# Altium footprint library ActiveComponents.PcbLib: 18 footprints (part 1 of 2)
Each footprint in its own frame and in the unit in brackets; x right, y up, seen from the top. Pads: shape width x height; smd on the part's side, far side on the other; paste and mask are expansions set on the pad; w line width, h text height; cw(c..) or ccw(c..) is an arc to the next point about the centre after c.
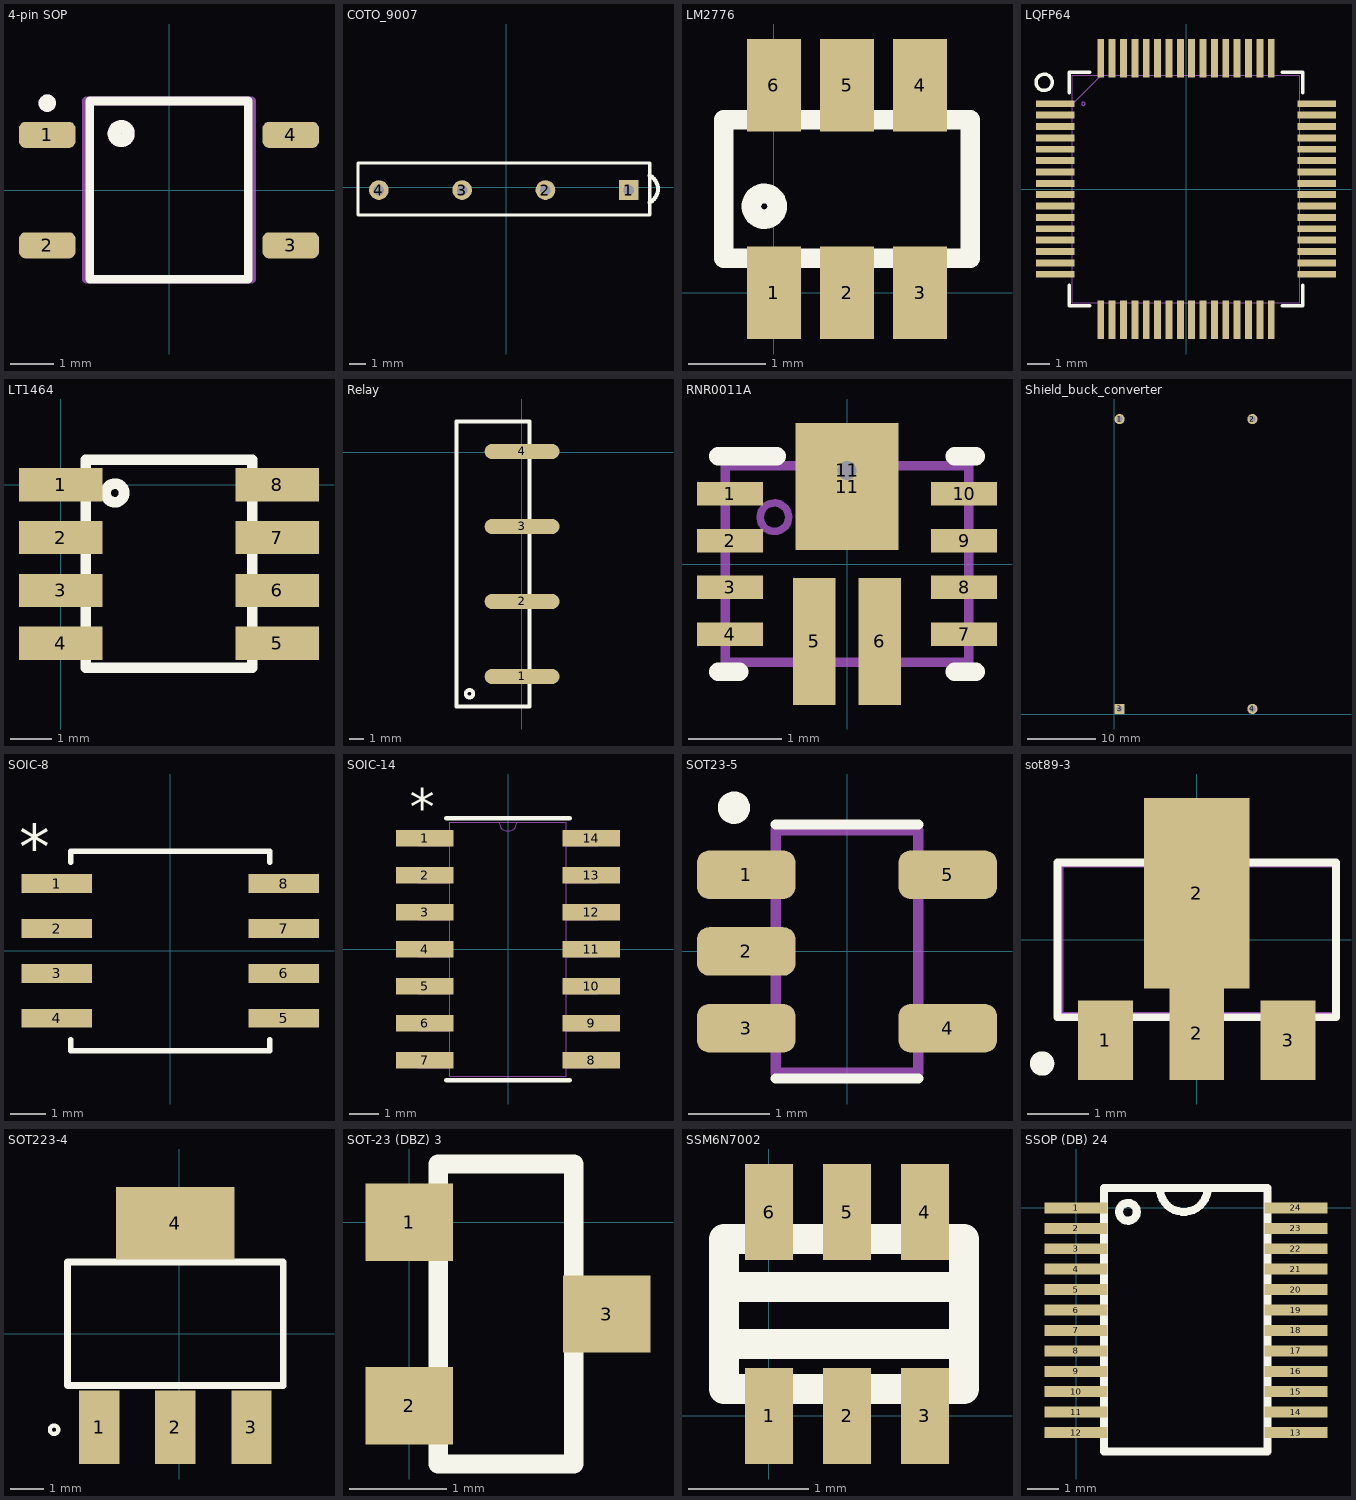
[diagram p0: the footprints below, top view; thin cyan lines are the x and y axes]

## 4-pin SOP [mm]
pads (4):
  rrect50% 1.3x0.6 smd: 1(-2.8,1.27) 2(-2.8,-1.27) 3(2.8,-1.27) 4(2.8,1.27)
Top Overlay:
  circle w0.3: c-1.1,1.3 r0.16
  circle w0.2: c-2.8,2 r0.1
  lines w0.2: -1.825,-2.05 1.825,-2.05 1.825,2.05 -1.825,2.05 -1.825,-2.05
Mechanical 13:
  circle w0.3: c-1.1,1.3 r0.16
  circle w0.2: c-2.8,2 r0.1
  lines w0.2: -1.905,-2.05 1.905,-2.05 1.905,2.05 -1.905,2.05 -1.905,-2.05

## COTO_9007 [mm]
pads (4):
  rect 1.2x1.2 hole 0.64: 1(7.467,-0.177)
  round 1.2 hole 0.64: 2(2.387,-0.177) 3(-2.693,-0.177) 4(-7.773,-0.177)
Top Overlay:
  lines w0.2: -9.043,-1.701 8.737,-1.701 8.737,1.474 -9.043,1.474 -9.043,-1.701
  lines w0.254: 8.737,-0.939 ccw(c8.324,-0.113) 8.737,0.712

## LM2776 [mm] "+5 to -5V converter"
pads (6):
  rect 0.7x1.2 smd: 1(0,0) 2(0.95,0) 3(1.9,0) 4(1.9,2.7) 5(0.95,2.7) 6(0,2.7)
Top Overlay:
  circle w0.254: c-0.125,1.125 r0.168
  lines w0.254: -0.65,0.45 2.55,0.45 2.55,2.25 -0.65,2.25 -0.65,1.35 -0.65,0.45

## LQFP64 [mm]
pads (64):
  rect 1.7x0.305 smd paste+0 mask+0: 1(-5.75,3.75) 2(-5.75,3.25) 3(-5.75,2.75) 4(-5.75,2.25) 5(-5.75,1.75) 6(-5.75,1.25) 7(-5.75,0.75) 8(-5.75,0.25) 9(-5.75,-0.25) 10(-5.75,-0.75) 11(-5.75,-1.25) 12(-5.75,-1.75) 13(-5.75,-2.25) 14(-5.75,-2.75) 15(-5.75,-3.25) 16(-5.75,-3.75) 33(5.75,-3.75) 34(5.75,-3.25) 35(5.75,-2.75) 36(5.75,-2.25) 37(5.75,-1.75) 38(5.75,-1.25) 39(5.75,-0.75) 40(5.75,-0.25) 41(5.75,0.25) 42(5.75,0.75) 43(5.75,1.25) 44(5.75,1.75) 45(5.75,2.25) 46(5.75,2.75) 47(5.75,3.25) 48(5.75,3.75)
  rect 0.305x1.7 smd paste+0 mask+0: 17(-3.75,-5.75) 18(-3.25,-5.75) 19(-2.75,-5.75) 20(-2.25,-5.75) 21(-1.75,-5.75) 22(-1.25,-5.75) 23(-0.75,-5.75) 24(-0.25,-5.75) 25(0.25,-5.75) 26(0.75,-5.75) 27(1.25,-5.75) 28(1.75,-5.75) 29(2.25,-5.75) 30(2.75,-5.75) 31(3.25,-5.75) 32(3.75,-5.75) 49(3.75,5.75) 50(3.25,5.75) 51(2.75,5.75) 52(2.25,5.75) 53(1.75,5.75) 54(1.25,5.75) 55(0.75,5.75) 56(0.25,5.75) 57(-0.25,5.75) 58(-0.75,5.75) 59(-1.25,5.75) 60(-1.75,5.75) 61(-2.25,5.75) 62(-2.75,5.75) 63(-3.25,5.75) 64(-3.75,5.75)
Top Overlay:
  lines w0.152: -5.9,4.8 ccw(c-6.24,4.692) -5.89,4.761 ; -5.131,-4.234 -5.131,-5.131 -4.234,-5.131 ; -5.131,4.234 -5.131,5.131 -4.234,5.131 ; 4.234,-5.131 5.131,-5.131 5.131,-4.234 ; 4.234,5.131 5.131,5.131 5.131,4.234
Mechanical 13:
  circle w0: c-4.518,3.75 r0.076
  lines w0.025: -5.004,3.734 -3.734,5.004 ; -5.004,-5.004 -5.004,5.004 5.004,5.004 5.004,-5.004 -5.004,-5.004
3D body "LQFP64-10x10mm.step": height 1.6, standoff 0, extent -5.972,-5.997 6.022,5.997
3D body: height 0.25, standoff 0, extent 0,0 0.254,0.254

## LT1464 [mm] "SOIC-8"
pads (8):
  rect 2x0.8 smd: 1(0,0) 2(0,-1.27) 3(0,-2.54) 4(0,-3.81) 5(5.2,-3.81) 6(5.2,-2.54) 7(5.2,-1.27) 8(5.2,0)
Top Overlay:
  circle w0.254: c1.3,-0.2 r0.224
  lines w0.254: 0.6,-4.4 4.6,-4.4 4.6,0.6 0.6,0.6 0.6,-4.4

## Relay [mil]
pads (4):
  oval 200x40 smd: 1(1.3,-598.58) 2(1.3,-398.58) 3(1.3,-198.58) 4(1.3,1.42)
Top Overlay:
  circle w10: c-138.94,-644.68 r10
  lines w10: -173.7,-678.58 -173.7,81.42 21.3,81.42 21.3,-678.58 -173.7,-678.58

## RNR0011A [mm]
pads (12):
  rect 0.702x0.25 smd paste+0 mask+0.051: 1(-1.251,0.75) 2(-1.251,0.25) 3(-1.251,-0.25) 4(-1.251,-0.75) 7(1.251,-0.75) 8(1.251,-0.25) 9(1.251,0.25) 10(1.251,0.75)
  rect 0.45x1.354 smd paste-0.537 mask-0.051: 5(-0.35,-0.827) 6(0.35,-0.827)
  rect 1.1x1.354 smd paste-0.537 mask-0.533: 11(0,0.827)
  round 0.5 hole 0.203 mask+0.051: 11(0,1)
Top Overlay:
  lines w0.2: -1.375,-1.15 -1.15,-1.15 ; -1.375,1.15 -0.75,1.15 ; 1.15,-1.15 1.375,-1.15 ; 1.15,1.15 1.375,1.15
Top Paste:
  region: -0.525,-0.28 -0.525,-1.2 -0.175,-1.2 -0.175,-0.28
  region: 0.175,-0.28 0.175,-1.2 0.525,-1.2 0.525,-0.28
  region: -0.5,0.72 -0.5,0.2 0.5,0.2 0.5,0.72
  region: -0.5,1.2 -0.5,0.92 -0.25,0.92 -0.25,1.2
  region: 0.25,1.2 0.25,0.92 0.5,0.92 0.5,1.2
Top Solder:
  region: 0.45,0.2 -0.45,0.2 -0.5,0.25 -0.5,1.15 -0.45,1.2 -0.3,1.2 -0.25,1.15 -0.25,0.87 -0.2,0.82 0.2,0.82 0.25,0.87 0.25,1.15 0.3,1.2 0.45,1.2 0.5,1.15 0.5,0.25
Mechanical 13:
  circle w0.08: c-0.775,0.5 r0.152
  lines w0.1: -1.3,-1.05 1.3,-1.05 ; -1.3,-1.05 1.3,-1.05 ; -1.3,-1.05 -1.3,1.05 ; -1.3,-1.05 -1.3,1.05 ; -1.3,1.05 1.3,1.05 ; -1.3,1.05 1.3,1.05 ; 1.3,-1.05 1.3,1.05 ; 1.3,-1.05 1.3,1.05
3D body: height 0.25, standoff 0, extent 0,0 0.254,0.254

## Shield_buck_converter [mm]
pads (4):
  round 1.5 hole 0.9: 1(0.75,43.25) 2(20.225,43.25) 4(20.225,0.75)
  rect 1.5x1.5 hole 0.9: 3(0.75,0.75)

## SOIC-8 [mm]
pads (8):
  rect 2x0.533 smd paste+0 mask+0: 1(-3.208,1.905) 2(-3.208,0.635) 3(-3.208,-0.635) 4(-3.208,-1.905) 5(3.208,-1.905) 6(3.208,-0.635) 7(3.208,0.635) 8(3.208,1.905)
Top Overlay:
  lines w0.152: -2.819,-2.504 -2.819,-2.819 2.819,-2.819 2.819,-2.504 ; -2.819,2.504 -2.819,2.819 2.819,2.819 2.819,2.504
  text "*" at -4.28,2.311 h1.27
3D body "WIN_SS-8_WIN.step": height 2.16, standoff 0, extent -4.026,-2.7 4.076,2.684
3D body: height 0.25, standoff 0, extent 0,0 0.254,0.254

## SOIC-14 [mil]
pads (14):
  rect 78x22 smd paste+0 mask+0: 1(-112.76,150) 2(-112.76,100) 3(-112.76,50) 4(-112.76,0) 5(-112.76,-50) 6(-112.76,-100) 7(-112.76,-150) 8(112.76,-150) 9(112.76,-100) 10(112.76,-50) 11(112.76,0) 12(112.76,50) 13(112.76,100) 14(112.76,150)
Top Overlay:
  lines w6: -83.5,-177 83.5,-177 ; -83.5,177 83.5,177
  text "*" at -133.07,166.79 h50
Mechanical 13:
  lines w0: -12,172 ccw(c0,172) 12,172
  lines w1: -122,-160 -78.5,-160 -78.5,-140 -122,-140 -122,-160 ; -122,-110 -78.5,-110 -78.5,-90 -122,-90 -122,-110 ; -122,-60 -78.5,-60 -78.5,-40 -122,-40 -122,-60 ; -122,-10 -78.5,-10 -78.5,10 -122,10 -122,-10 ; -122,40 -78.5,40 -78.5,60 -122,60 -122,40 ; -122,90 -78.5,90 -78.5,110 -122,110 -122,90 ; -122,140 -78.5,140 -78.5,160 -122,160 -122,140 ; -78.5,-172 -78.5,172 78.5,172 78.5,-172 -78.5,-172 ; 78.5,-160 122,-160 122,-140 78.5,-140 78.5,-160 ; 78.5,-110 122,-110 122,-90 78.5,-90 78.5,-110 ; 78.5,-60 122,-60 122,-40 78.5,-40 78.5,-60 ; 78.5,-10 122,-10 122,10 78.5,10 78.5,-10 ; 78.5,40 122,40 122,60 78.5,60 78.5,40 ; 78.5,90 122,90 122,110 78.5,110 78.5,90 ; 78.5,140 122,140 122,160 78.5,160 78.5,140
  text "*" at -76,119 h50
3D body "SOIC14.STEP": height 61.42, standoff 0, extent -118.11,-176.18 118.1,176.18
3D body: height 10, standoff 0, extent 0,0 10,10

## SOT23-5 [mm]
pads (5):
  rrect50% 1.22x0.6 smd: 1(-1.245,0.95) 2(-1.245,0) 3(-1.245,-0.95) 4(1.245,-0.95) 5(1.245,0.95)
Top Overlay:
  circle w0.2: c-1.397,1.778 r0.1
  lines w0.127: -0.88,-1.57 0.88,-1.57 ; -0.88,1.57 0.88,1.57
Mechanical 13:
  lines w0.127: -0.88,-1.5 -0.88,1.5 0.88,1.5 0.88,-1.5 -0.88,-1.5

## sot89-3 [mm]
pads (4):
  rect 0.9x1.3 smd: 1(-1.5,-1.65) 3(1.5,-1.65)
  rect 0.9x1.526 smd: 2(0,-1.537)
  rect 1.733x3.125 smd: 2(0,0.763)
Top Overlay:
  circle w0.2: c-2.54,-2.032 r0.1
  lines w0.127: -2.286,-1.27 -2.286,1.27 2.286,1.27 2.286,-1.27 -2.286,-1.27
Mechanical 13:
  lines w0.127: -2.25,-1.25 -2.25,1.25 2.286,1.25 2.286,-1.25 -2.25,-1.25

## SOT223-4 [mil]
pads (4):
  rect 48x88 smd: 1(-96,-112) 2(-5,-112) 3(86,-112)
  rect 141.73x86.61 smd: 4(-5,132.01)
Top Overlay:
  circle w5: c-150,-115 r5
  lines w8: -134,-62.01 124,-62.01 124,85.63 -134,85.63 -134,-62.01

## SOT-23 (DBZ) 3 [mm]
height 1.12
pads (3):
  rect 0.9x0.8 smd: 1(0,0) 2(0,-1.9) 3(2.04,-0.95)
Top Overlay:
  lines w0.2: 0.3,-2.5 0.3,0.6 1.7,0.6 1.7,-2.5 0.3,-2.5

## SSM6N7002 [mm] "N-Mosfet pair"
pads (6):
  rect 0.4x0.8 smd: 1(0,0) 2(0.65,0) 3(1.3,0) 4(1.3,1.7) 5(0.65,1.7) 6(0,1.7)
Top Overlay:
  lines w0.254: -0.375,0.6 1.6,0.6 ; -0.375,1.075 1.6,1.075 ; -0.375,0.225 -0.375,0.85 -0.375,1.475 1.625,1.475 1.625,0.225 -0.375,0.225

## SSOP (DB) 24 [mm] "SSOP (DB) 24"
height 2
pads (24):
  rect 2x0.35 smd: 1(0,0) 2(0,-0.65) 3(0,-1.3) 4(0,-1.95) 5(0,-2.6) 6(0,-3.25) 7(0,-3.9) 8(0,-4.55) 9(0,-5.2) 10(0,-5.85) 11(0,-6.5) 12(0,-7.15) 13(7,-7.15) 14(7,-6.5) 15(7,-5.85) 16(7,-5.2) 17(7,-4.55) 18(7,-3.9) 19(7,-3.25) 20(7,-2.6) 21(7,-1.95) 22(7,-1.3) 23(7,-0.65) 24(7,0)
Top Overlay:
  circle w0.254: c1.651,-0.127 r0.284
  lines w0.254: 2.667,0.635 ccw(c3.429,0.635) 4.191,0.635 ; 0.889,-7.747 6.096,-7.747 6.096,0.635 0.889,0.635 0.889,-7.747